# EAGLE library part STM32G473-81 (library Bits_library_eagle)
STM32G473 LQFP128
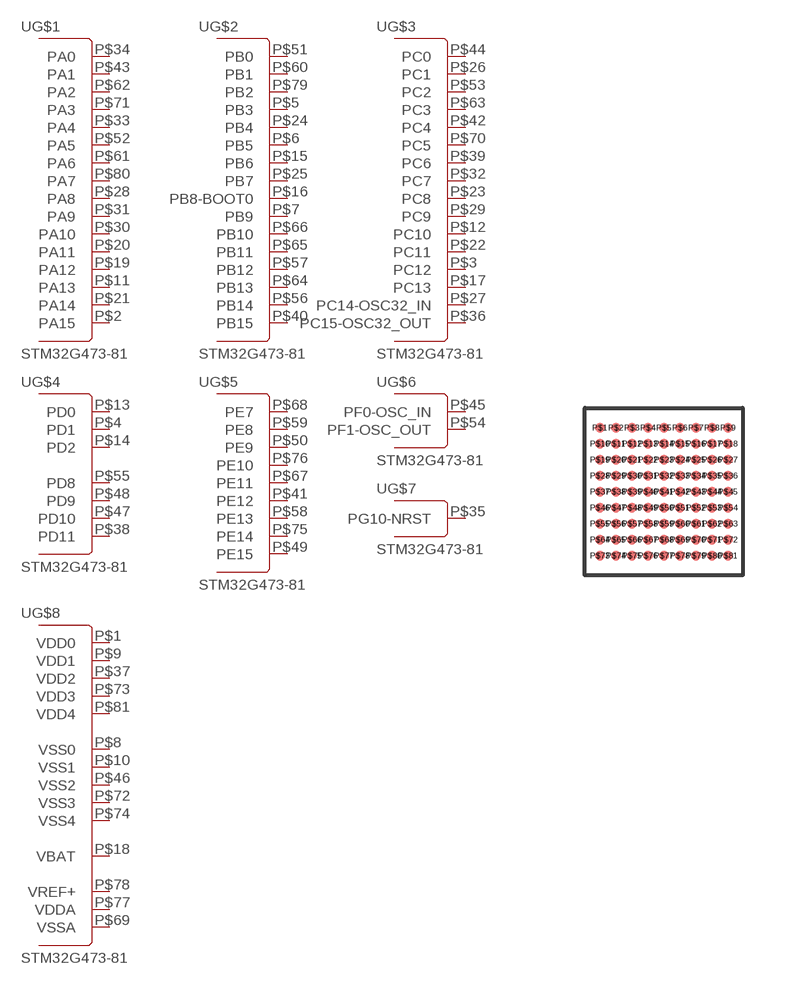
[diagram p9: symbol with the pads of WLCSP81; footprint WLCSP81]

Designator prefix -; gates G$1=STM32-PORTA-81 G$2=STM32-PORTB-81 G$3=STM32-PORTC-81 G$4=STM32-PORTD-81 G$5=STM32-PORTE-81 G$6=STM32-PORTF-81 G$7=STM32-PORTG-81 G$8=STM32-PWR-81

## STM32G473-81  [WLCSP81]
P$1  G$8:VDD0  pwr
P$2  G$1:PA15
P$3  G$3:PC12
P$4  G$4:PD1
P$5  G$2:PB3
P$6  G$2:PB5
P$7  G$2:PB9
P$8  G$8:VSS0  pwr
P$9  G$8:VDD1  pwr
P$10  G$8:VSS1  pwr
P$11  G$1:PA13
P$12  G$3:PC10
P$13  G$4:PD0
P$14  G$4:PD2
P$15  G$2:PB6
P$16  G$2:PB8-BOOT0
P$17  G$3:PC13
P$18  G$8:VBAT  pwr
P$19  G$1:PA12
P$20  G$1:PA11
P$21  G$1:PA14
P$22  G$3:PC11
P$23  G$3:PC8
P$24  G$2:PB4
P$25  G$2:PB7
P$26  G$3:PC1
P$27  G$3:PC14-OSC32_IN
P$28  G$1:PA8
P$29  G$3:PC9
P$30  G$1:PA10
P$31  G$1:PA9
P$32  G$3:PC7
P$33  G$1:PA4
P$34  G$1:PA0
P$35  G$7:PG10-NRST
P$36  G$3:PC15-OSC32_OUT
P$37  G$8:VDD2  pwr
P$38  G$4:PD11
P$39  G$3:PC6
P$40  G$2:PB15
P$41  G$5:PE12
P$42  G$3:PC4
P$43  G$1:PA1
P$44  G$3:PC0
P$45  G$6:PF0-OSC_IN
P$46  G$8:VSS2  pwr
P$47  G$4:PD10
P$48  G$4:PD9
P$49  G$5:PE15
P$50  G$5:PE9
P$51  G$2:PB0
P$52  G$1:PA5
P$53  G$3:PC2
P$54  G$6:PF1-OSC_OUT
P$55  G$4:PD8
P$56  G$2:PB14
P$57  G$2:PB12
P$58  G$5:PE13
P$59  G$5:PE8
P$60  G$2:PB1
P$61  G$1:PA6
P$62  G$1:PA2
P$63  G$3:PC3
P$64  G$2:PB13
P$65  G$2:PB11
P$66  G$2:PB10
P$67  G$5:PE11
P$68  G$5:PE7
P$69  G$8:VSSA  pwr
P$70  G$3:PC5
P$71  G$1:PA3
P$72  G$8:VSS3  pwr
P$73  G$8:VDD3  pwr
P$74  G$8:VSS4  pwr
P$75  G$5:PE14
P$76  G$5:PE10
P$77  G$8:VDDA  pwr
P$78  G$8:VREF+  pwr
P$79  G$2:PB2
P$80  G$1:PA7
P$81  G$8:VDD4  pwr

## Footprint WLCSP81 (pad centres in mm)
smd 0.25 x 0.25: P$1 -1.6,1.6; P$2 -1.2,1.6; P$3 -0.8,1.6; P$4 -0.4,1.6; P$5 0,1.6; P$6 0.4,1.6; P$7 0.8,1.6; P$8 1.2,1.6; P$9 1.6,1.6; P$10 -1.6,1.2; P$11 -1.2,1.2; P$12 -0.8,1.2; P$13 -0.4,1.2; P$14 0,1.2; P$15 0.4,1.2; P$16 0.8,1.2; P$17 1.2,1.2; P$18 1.6,1.2; P$19 -1.6,0.8; P$20 -1.2,0.8; P$21 -0.8,0.8; P$22 -0.4,0.8; P$23 0,0.8; P$24 0.4,0.8; P$25 0.8,0.8; P$26 1.2,0.8; P$27 1.6,0.8; P$28 -1.6,0.4; P$29 -1.2,0.4; P$30 -0.8,0.4; P$31 -0.4,0.4; P$32 0,0.4; P$33 0.4,0.4; P$34 0.8,0.4; P$35 1.2,0.4; P$36 1.6,0.4; P$37 -1.6,0; P$38 -1.2,0; P$39 -0.8,0; P$40 -0.4,0; P$41 0,0; P$42 0.4,0; P$43 0.8,0; P$44 1.2,0; P$45 1.6,0; P$46 -1.6,-0.4; P$47 -1.2,-0.4; P$48 -0.8,-0.4; P$49 -0.4,-0.4; P$50 0,-0.4; P$51 0.4,-0.4; P$52 0.8,-0.4; P$53 1.2,-0.4; P$54 1.6,-0.4; P$55 -1.6,-0.8; P$56 -1.2,-0.8; P$57 -0.8,-0.8; P$58 -0.4,-0.8; P$59 0,-0.8; P$60 0.4,-0.8; P$61 0.8,-0.8; P$62 1.2,-0.8; P$63 1.6,-0.8; P$64 -1.6,-1.2; P$65 -1.2,-1.2; P$66 -0.8,-1.2; P$67 -0.4,-1.2; P$68 0,-1.2; P$69 0.4,-1.2; P$70 0.8,-1.2; P$71 1.2,-1.2; P$72 1.6,-1.2; P$73 -1.6,-1.6; P$74 -1.2,-1.6; P$75 -0.8,-1.6; P$76 -0.4,-1.6; P$77 0,-1.6; P$78 0.4,-1.6; P$79 0.8,-1.6; P$80 1.2,-1.6; P$81 1.6,-1.6